# Altium footprint library alientek_sch_lib.PcbLib: 370 footprints (part 16 of 24)
Each footprint in its own frame and in the unit in brackets; x right, y up, seen from the top. Pads: shape width x height; smd on the part's side, far side on the other; paste and mask are expansions set on the pad; w line width, h text height; cw(c..) or ccw(c..) is an arc to the next point about the centre after c.
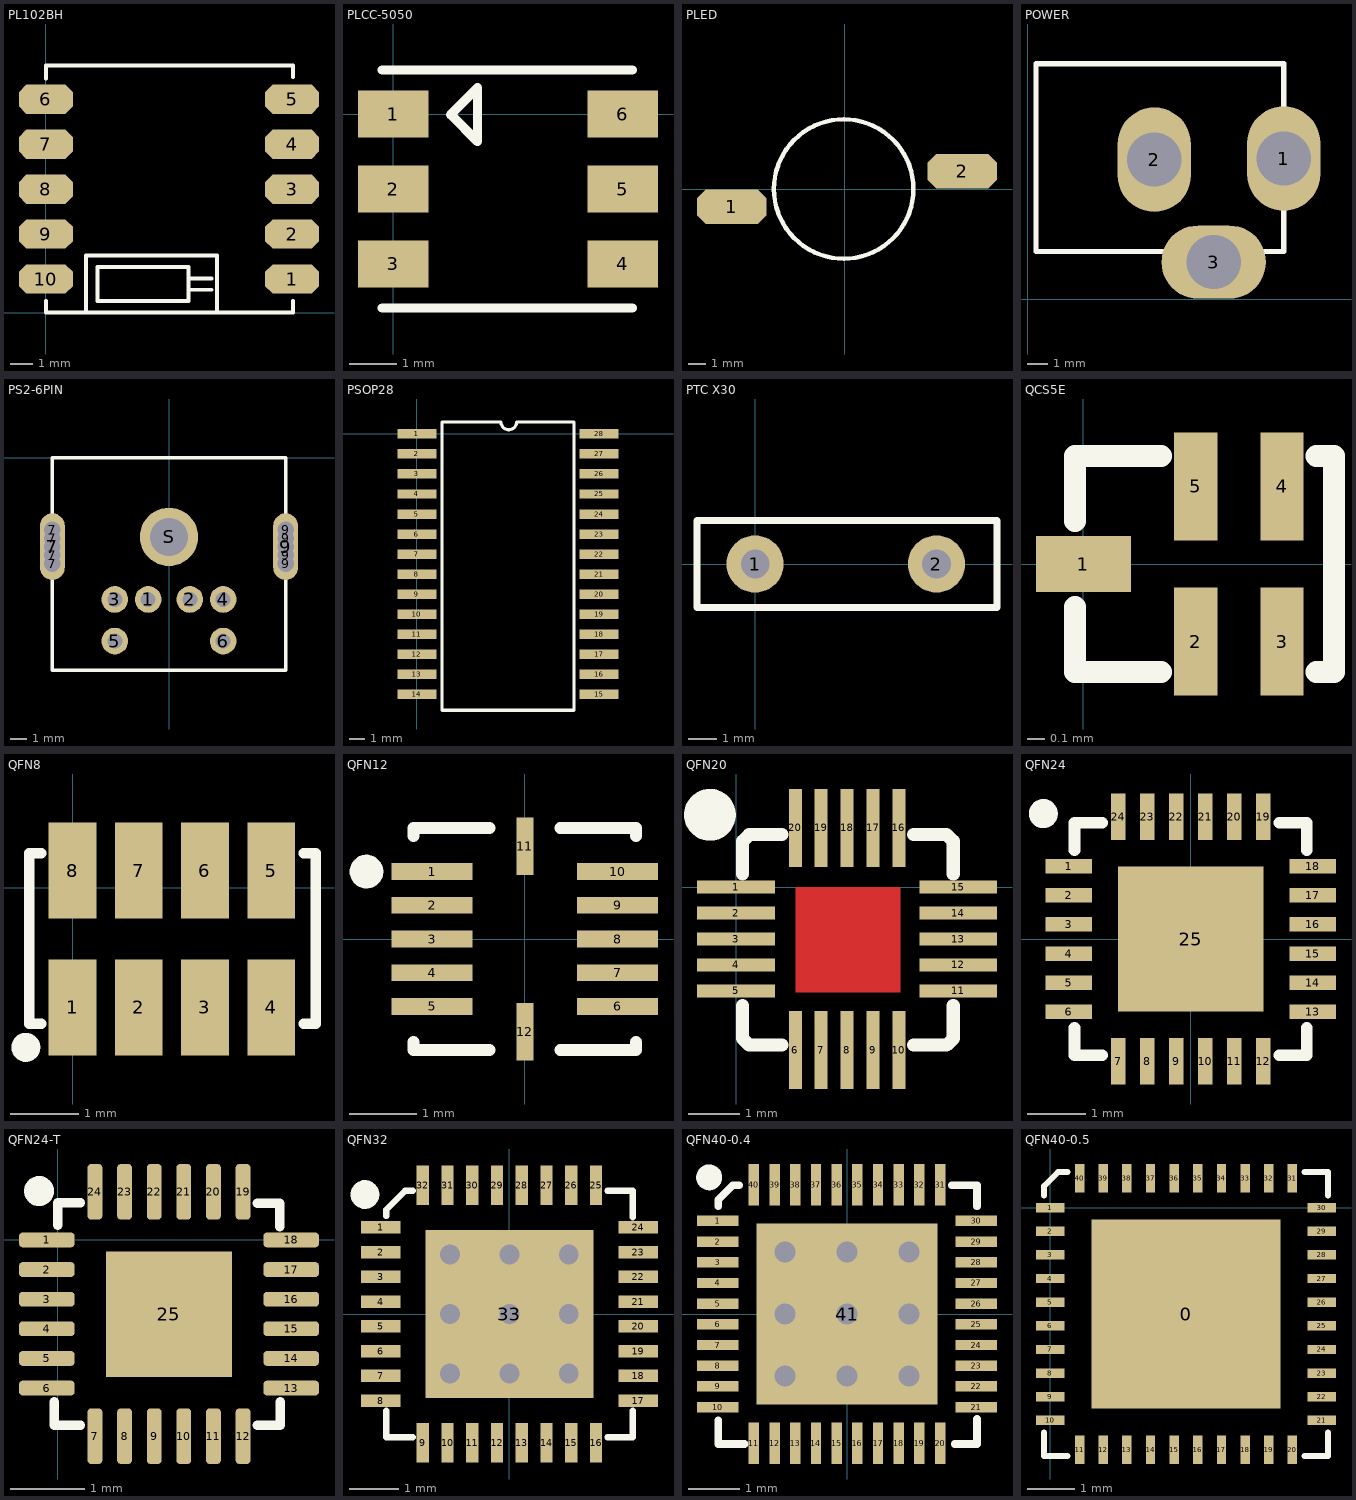
[diagram p15: the footprints below, top view; thin cyan lines are the x and y axes]

## PL102BH [mm] "PL102BH-2.0"
height 1
pads (10):
  oct 2.4x1.3 smd: 1(10.952,1.492) 2(10.952,3.492) 3(10.952,5.492) 4(10.952,7.492) 5(10.952,9.492) 6(0,9.492) 7(0,7.492) 8(0,5.492) 9(0,3.492) 10(0,1.492)
Top Overlay:
  lines w0.178: 0,0.508 0,0 11,0 11,0.508 ; 0,10.414 0,11 11,11 11,10.492 ; 1.778,0 1.778,2.54 7.62,2.54 7.62,0 ; 6.35,1.016 7.366,1.016 ; 6.35,1.524 7.366,1.524 ; 2.286,0.508 6.35,0.508 6.35,2.032 2.286,2.032 2.286,0.508

## PLCC-5050 [mm] "SOP_RGB"
height 1.6
pads (6):
  rect 1.5x1 smd: 1(0,0) 2(0,-1.6) 3(0,-3.2) 4(4.9,-3.2) 5(4.9,-1.6) 6(4.9,0)
Top Overlay:
  lines w0.2: -0.233,-4.14 5.101,-4.14 ; -0.233,0.94 5.101,0.94 ; 1.228,-0.012 1.291,0.051 1.799,0.559 1.799,-0.584 1.228,-0.012

## PLED [mm] "POWER LED"
height 5
pads (2):
  oct 4x2 smd: 1(-6.477,-1.016) 2(6.731,1.016)
Top Overlay:
  circle w0.254: c-0.063,0 r4

## POWER [mil] "DC_IN"
height 472.44
pads (3):
  oval 138x197 hole 102: 1(482.32,265.16) 2(238.32,263.16)
  oval 197x138 hole 102: 3(350.32,70.16)
Top Overlay:
  lines w10: 482.32,90.16 15.32,90.16 15.32,444.16 482.32,444.16 482.32,92.16

## PS2-6PIN [mm] "PS2 Socket, 6 Pin, Through Hole"
pads (17):
  round 1.6 hole 0.9: 1(-1.25,-8.5) 2(1.25,-8.5) 3(-3.25,-8.5) 4(3.25,-8.5) 5(-3.25,-11) 6(3.25,-11)
  round 1 hole 1: 7(-7,-6.35) 7(-7,-5.842) 7(-7,-4.826) 7(-7,-4.318) 9(7,-6.35) 9(7,-5.842) 9(7,-4.826) 9(7,-4.318)
  oval 1.5x4 hole 1: 7(-7,-5.334) 9(7,-5.334)
  round 3.5 hole 2.3: S(0,-4.75)
Top Overlay:
  lines w0.2: -7,-12.75 7,-12.75 7,0 -7,0 -7,-12.75

## PSOP28 [mm] "e:1,27mm;H:11.81mm;D:18.11mm;B:0.41mm;"
height 2.8
pads (28):
  rect 2.5x0.6 smd: 1(0.013,0) 2(0.013,-1.27) 3(0.013,-2.54) 4(0.013,-3.81) 5(0.013,-5.08) 6(0.013,-6.35) 7(0.013,-7.62) 8(0.013,-8.89) 9(0.013,-10.16) 10(0.013,-11.43) 11(0.013,-12.7) 12(0.013,-13.97) 13(0.013,-15.24) 14(0.013,-16.51) 15(11.557,-16.51) 16(11.557,-15.24) 17(11.557,-13.97) 18(11.557,-12.7) 19(11.557,-11.43) 20(11.557,-10.16) 21(11.557,-8.89) 22(11.557,-7.62) 23(11.557,-6.35) 24(11.557,-5.08) 25(11.557,-3.81) 26(11.557,-2.54) 27(11.557,-1.27) 28(11.557,0)
Top Overlay:
  lines w0.2: 6.334,0.762 cw(c5.834,0.762) 5.334,0.762 1.594,0.762 1.594,-17.526 9.962,-17.526 9.962,0.762 6.35,0.762

## PTC X30 [mm] "UF300 X300;30V,3A."
height 13
pads (2):
  round 2 hole 1: 1(0,0) 2(6.35,0)
Top Overlay:
  lines w0.254: -2.032,-1.524 8.468,-1.524 8.468,1.524 -2.032,1.524 -2.032,-1.524

## QCS5E [mm] "1.8mmX1.4mm"
height 0.72
pads (5):
  rect 0.55x0.325 smd: 1(0,0)
  rect 0.25x0.625 smd: 2(0.65,-0.45) 3(1.15,-0.45) 4(1.15,0.45) 5(0.65,0.45)
Top Overlay:
  lines w0.127: -0.05,-0.25 -0.05,-0.625 0.45,-0.625 ; -0.05,0.25 -0.05,0.625 0.45,0.625 ; 1.35,-0.625 1.45,-0.625 1.45,0.625 1.35,0.625

## QFN8 [mm] "QFN,8P,P0.97"
height 1.4
pads (8):
  rect 0.7x1.4 smd: 1(0,-1.753) 2(0.97,-1.753) 3(1.94,-1.753) 4(2.91,-1.753) 5(2.91,0.253) 6(1.94,0.253) 7(0.97,0.253) 8(0,0.253)
Top Overlay:
  circle w0.224: c-0.684,-2.337 r0.1
  lines w0.152: -0.457,-1.992 -0.635,-1.992 -0.635,0.508 -0.457,0.508 ; 3.387,-1.992 3.565,-1.992 3.565,0.508 3.387,0.508

## QFN12 [mm] "QFN, 12-Leads, Body 3.2x3.2mm (max), Pitch 0.50mm, IPC High Density"
height 0.9
pads (12):
  rect 1.2x0.25 smd: 1(-1.375,1) 2(-1.375,0.5) 3(-1.375,0) 4(-1.375,-0.5) 5(-1.375,-1) 6(1.375,-1) 7(1.375,-0.5) 8(1.375,0) 9(1.375,0.5) 10(1.375,1)
  rect 0.25x0.85 smd: 11(0,1.375) 12(0,-1.375)
Top Overlay:
  circle w0.25: c-2.35,1 r0.125
  lines w0.178: -1.65,-1.525 -1.65,-1.65 -0.525,-1.65 ; -1.65,1.525 -1.65,1.65 -0.525,1.65 ; 0.525,-1.65 1.65,-1.65 1.65,-1.525 ; 0.525,1.65 1.65,1.65 1.65,1.525

## QFN20 [mm]
height 1
pads (20):
  rect 1.5x0.25 smd: 1(0,0) 2(0,-0.5) 3(0,-1) 4(0,-1.5) 5(0,-2) 11(4.286,-2) 12(4.286,-1.5) 13(4.286,-1) 14(4.286,-0.5) 15(4.286,0)
  rect 0.25x1.5 smd: 6(1.143,-3.143) 7(1.643,-3.143) 8(2.143,-3.143) 9(2.643,-3.143) 10(3.143,-3.143) 16(3.143,1.143) 17(2.643,1.143) 18(2.143,1.143) 19(1.643,1.143) 20(1.143,1.143)
Top Layer:
  rectangle: 1.143,-2.032 3.175,0
Top Overlay:
  circle w0.5: c-0.504,1.397 r0.25
  lines w0.254: 0.127,-2.286 0.127,-2.921 0.254,-3.048 0.889,-3.048 0.381,-3.048 ; 0.127,0.254 0.127,0.889 0.254,1.016 0.889,1.016 0.381,1.016 ; 3.429,-3.048 4.064,-3.048 4.191,-2.921 4.191,-2.286 ; 3.937,1.016 3.429,1.016 4.064,1.016 4.191,0.889 4.191,0.254

## QFN24 [mm] "QFN, 24-Leads, Body 4.0x4.0mm (max), Pitch 0.50mm, IPC Medium Density"
height 0.9
pads (25):
  rect 0.8x0.25 smd: 1(-2.101,1.25) 2(-2.101,0.75) 3(-2.101,0.25) 4(-2.101,-0.25) 5(-2.101,-0.75) 6(-2.101,-1.25) 13(2.101,-1.25) 14(2.101,-0.75) 15(2.101,-0.25) 16(2.101,0.25) 17(2.101,0.75) 18(2.101,1.25)
  rect 0.25x0.8 smd: 7(-1.25,-2.101) 8(-0.75,-2.101) 9(-0.25,-2.101) 10(0.25,-2.101) 11(0.75,-2.101) 12(1.25,-2.101) 19(1.25,2.101) 20(0.75,2.101) 21(0.25,2.101) 22(-0.25,2.101) 23(-0.75,2.101) 24(-1.25,2.101)
  rect 2.5x2.5 smd: 25(0,0)
Top Overlay:
  circle w0.25: c-2.538,2.159 r0.125
  lines w0.2: -2,-1.525 -2,-2 -1.525,-2 ; -2,1.525 -2,2 -1.525,2 ; 1.525,-2 2,-2 2,-1.525 ; 1.525,2 2,2 2,1.525

## QFN24-T [mm] "QFN, 24-Leads, Body 3.0x3.0mm (max), Pitch 0.40mm,"
height 0.9
pads (25):
  rrect50% 0.75x0.2 smd: 1(-0.15,0) 2(-0.15,-0.4) 3(-0.15,-0.8) 4(-0.15,-1.2) 5(-0.15,-1.6) 6(-0.15,-2) 13(3.15,-2) 14(3.15,-1.6) 15(3.15,-1.2) 16(3.15,-0.8) 17(3.15,-0.4) 18(3.15,0)
  rrect50% 0.2x0.75 smd: 7(0.5,-2.65) 8(0.9,-2.65) 9(1.3,-2.65) 10(1.7,-2.65) 11(2.1,-2.65) 12(2.5,-2.65) 19(2.5,0.65) 20(2.1,0.65) 21(1.7,0.65) 22(1.3,0.65) 23(0.9,0.65) 24(0.5,0.65)
  rect 1.7x1.7 smd: 25(1.499,-1.003)
Top Overlay:
  circle w0.203: c-0.254,0.66 r0.102
  lines w0.127: -0.047,-2.184 -0.047,-2.5 0.305,-2.5 ; 0,0.199 0,0.5 0.305,0.5 ; 2.692,-2.5 3,-2.5 3,-2.184 ; 2.692,0.495 2.993,0.495 ; 2.993,0.178 2.993,0.483

## QFN32 [mm] "QFN, 32-Leads, Body 5.0x5.0mm (max), Pitch 0.50mm, IPC Medium Density"
height 1
pads (33):
  rect 0.8x0.25 smd: 1(-2.601,1.75) 2(-2.601,1.25) 3(-2.601,0.75) 4(-2.601,0.25) 5(-2.601,-0.25) 6(-2.601,-0.75) 7(-2.601,-1.25) 8(-2.601,-1.75) 17(2.601,-1.75) 18(2.601,-1.25) 19(2.601,-0.75) 20(2.601,-0.25) 21(2.601,0.25) 22(2.601,0.75) 23(2.601,1.25) 24(2.601,1.75)
  rect 0.25x0.8 smd: 9(-1.75,-2.601) 10(-1.25,-2.601) 11(-0.75,-2.601) 12(-0.25,-2.601) 13(0.25,-2.601) 14(0.75,-2.601) 15(1.25,-2.601) 16(1.75,-2.601) 25(1.75,2.601) 26(1.25,2.601) 27(0.75,2.601) 28(0.25,2.601) 29(-0.25,2.601) 30(-0.75,2.601) 31(-1.25,2.601) 32(-1.75,2.601)
  rect 3.4x3.4 smd: 33(0,0)
via 1.2,-1.2 diameter 0.7 hole 0.4
via 0,-1.2 diameter 0.7 hole 0.4
via -1.2,-1.2 diameter 0.7 hole 0.4
via 1.2,0 diameter 0.7 hole 0.4
via 0,0 diameter 0.7 hole 0.4
via -1.2,0 diameter 0.7 hole 0.4
via 1.2,1.2 diameter 0.7 hole 0.4
via 0,1.2 diameter 0.7 hole 0.4
via -1.2,1.2 diameter 0.7 hole 0.4
Top Overlay:
  circle w0.3: c-2.919,2.413 r0.14
  lines w0.127: -2.489,-1.956 -2.489,-2.489 -1.956,-2.489 ; -2.489,1.981 -2.489,2.108 -2.108,2.489 -1.956,2.489 ; 1.981,-2.489 2.489,-2.489 2.489,-1.956 ; 1.981,2.489 2.489,2.489 2.489,1.956
Mechanical 15:
  lines w0.1: -0.5,0 0.5,0 ; 0,-0.5 0,0.5

## QFN40-0.4 [mm] "QFN, 40-Leads, Body 5.0x5.0mm (max), Pitch 0.40mm, IPC Medium Density"
height 0.7
pads (41):
  rect 0.8x0.2 smd: 1(-2.5,1.8) 2(-2.5,1.4) 3(-2.5,1) 4(-2.5,0.6) 5(-2.5,0.2) 6(-2.5,-0.2) 7(-2.5,-0.6) 8(-2.5,-1) 9(-2.5,-1.4) 10(-2.5,-1.8) 21(2.5,-1.8) 22(2.5,-1.4) 23(2.5,-1) 24(2.5,-0.6) 25(2.5,-0.2) 26(2.5,0.2) 27(2.5,0.6) 28(2.5,1) 29(2.5,1.4) 30(2.5,1.8)
  rect 0.2x0.8 smd: 11(-1.8,-2.5) 12(-1.4,-2.5) 13(-1,-2.5) 14(-0.6,-2.5) 15(-0.2,-2.5) 16(0.2,-2.5) 17(0.6,-2.5) 18(1,-2.5) 19(1.4,-2.5) 20(1.8,-2.5) 31(1.8,2.5) 32(1.4,2.5) 33(1,2.5) 34(0.6,2.5) 35(0.2,2.5) 36(-0.2,2.5) 37(-0.6,2.5) 38(-1,2.5) 39(-1.4,2.5) 40(-1.8,2.5)
  rect 3.5x3.5 smd: 41(0,0)
via -1.2,1.2 diameter 0.7 hole 0.4
via 0,1.2 diameter 0.7 hole 0.4
via 1.2,1.2 diameter 0.7 hole 0.4
via -1.2,0 diameter 0.7 hole 0.4
via 0,0 diameter 0.7 hole 0.4
via 1.2,0 diameter 0.7 hole 0.4
via -1.2,-1.2 diameter 0.7 hole 0.4
via 0,-1.2 diameter 0.7 hole 0.4
via 1.2,-1.2 diameter 0.7 hole 0.4
Top Overlay:
  circle w0.25: c-2.665,2.642 r0.125
  lines w0.152: -2.489,-2.057 -2.489,-2.489 -2.489,-2.515 -1.981,-2.515 ; -2.489,2.083 -2.489,2.21 -2.21,2.489 -2.083,2.489 ; 2.032,2.489 2.515,2.489 2.515,2.083 ; 2.083,-2.515 2.515,-2.515 2.515,-2.032

## QFN40-0.5 [mm]
pads (41):
  rect 4x4 smd: 0(2.87,-2.25)
  rect 0.6x0.2 smd: 1(0,0) 2(0,-0.5) 3(0,-1) 4(0,-1.5) 5(0,-2) 6(0,-2.5) 7(0,-3) 8(0,-3.5) 9(0,-4) 10(0,-4.5) 21(5.74,-4.5) 22(5.74,-4) 23(5.74,-3.5) 24(5.74,-3) 25(5.74,-2.5) 26(5.74,-2) 27(5.74,-1.5) 28(5.74,-1) 29(5.74,-0.5) 30(5.74,0)
  rect 0.2x0.6 smd: 11(0.62,-5.12) 12(1.12,-5.12) 13(1.62,-5.12) 14(2.12,-5.12) 15(2.62,-5.12) 16(3.12,-5.12) 17(3.62,-5.12) 18(4.12,-5.12) 19(4.62,-5.12) 20(5.12,-5.12) 31(5.12,0.62) 32(4.62,0.62) 33(4.12,0.62) 34(3.62,0.62) 35(3.12,0.62) 36(2.62,0.62) 37(2.12,0.62) 38(1.62,0.62) 39(1.12,0.62) 40(0.62,0.62)
Top Overlay:
  lines w0.127: -0.13,-4.75 -0.13,-5.25 0.37,-5.25 ; -0.13,0.25 -0.13,0.45 0.17,0.75 0.37,0.75 ; 5.37,-5.25 5.87,-5.25 5.87,-4.75 ; 5.37,0.75 5.87,0.75 5.87,0.25